# Altium footprint library CONN-TH_XH-3A.PcbLib: 1 footprints
Each footprint in its own frame and in the unit in brackets; x right, y up, seen from the top. Pads: shape width x height; smd on the part's side, far side on the other; paste and mask are expansions set on the pad; w line width, h text height; cw(c..) or ccw(c..) is an arc to the next point about the centre after c.
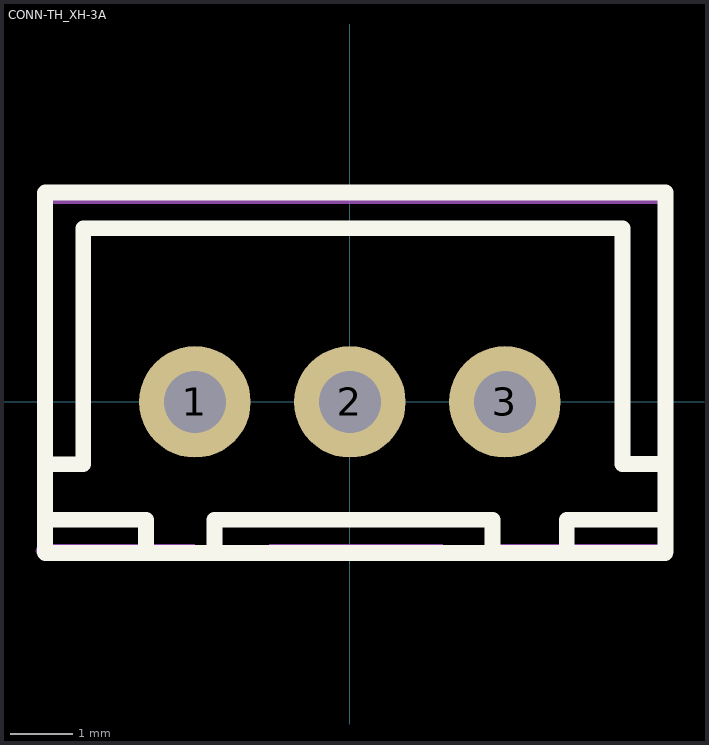
[diagram p0: the footprint, top view; thin cyan lines are the x and y axes]

## CONN-TH_XH-3A [mm]
pads (3):
  round 1.8 / inner round 1.524 / far side round 1.524 hole 1 paste+0 mask+0.05: 1(-2.5,0) 2(0,0) 3(2.5,0)
Top Overlay:
  lines w0.254: -4.918,-2.432 -4.918,3.368 ; -4.918,-1.9 -3.288,-1.9 -3.288,-2.438 ; -4.918,-1.005 -4.301,-1.005 -4.301,2.8 4.399,2.8 4.399,-1 5.093,-1 ; -4.915,-2.438 5.085,-2.438 ; -4.915,3.378 5.085,3.378 ; -2.183,-2.438 -2.183,-1.9 2.299,-1.9 2.299,-2.438 ; 3.499,-2.438 3.499,-1.9 3.862,-1.9 5.093,-1.9 ; 5.093,-2.413 5.093,3.378
Mechanical 6:
  region: -4.801,3.4 4.999,3.4 4.999,3.2 -4.801,3.2
  region: -5.001,-2.3 -2.501,-2.3 -2.501,-2.5 -5.001,-2.5
  region: 5.199,-2.3 5.199,-2.5 2.299,-2.5 2.299,-2.3
  region: -1.301,-2.3 -1.301,-2.5 1.499,-2.5 1.499,-2.3
  region: -5,-2.3 -5,-1.8 -4.8,-1.8 -4.8,-2.3
  region: -4.8,-1 -4.8,3.4 -5,3.4 -5,-1
  region: 5.199,-1 5.199,3.4 4.999,3.4 4.999,-1
  region: 4.999,-2.3 4.999,-1.8 5.199,-1.8 5.199,-2.3
Mechanical 15:
  region: -4.937,-2.4 -4.936,-2.4 -4.955,-2.354 -5.001,-2.335 -5.047,-2.354 -5.066,-2.4 -5.047,-2.446 -5.001,-2.465 -4.955,-2.446
  region: 2.2,0.3 2.8,0.3 2.8,-0.3 2.2,-0.3
  region: -0.3,0.3 0.3,0.3 0.3,-0.3 -0.3,-0.3
  region: -2.8,0.3 -2.2,0.3 -2.2,-0.3 -2.8,-0.3
  lines w0.051: -5.001,-2.4 -5.001,3.4 4.999,3.4 4.999,-2.4 -5.001,-2.4